# Altium schematic symbol library BSZ042N04NS G.SchLib: 1 symbol
Pins are listed as number, name and electrical type; pins without a type are passive.

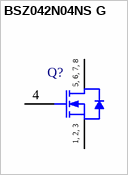
[diagram p0: symbol BSZ042N04NS G]

## BSZ042N04NS G
designator Q?
N-Channel OptiMOS 3 Power-Transistor, 40 V VDS, 40 A ID, -55 to 150 degC, PG-TSDSON-8-21, Reel, Green; Manufacturer: Infineon; PartNumber: BSZ042N04NS G; Green: TRUE; ID (max): 40 A; IDpuls (max): 160 A; Polarity: N; Ptot (max): 69 W; QG: 35 nC; RDS (on) (max): 4.2 mOhm; Rth: 1.8 K/W; RthJA (max): 60 K/W; VDS (max): 40 V; VGS(th) (max): 4 V; VGS(th) (min): 2 V; DatasheetVersion: Rev. 1.3; PackageVersion: Rev. 01, 03/2007; PackageReference: PG-TSDSON-8-21; PackageDescription: 8-Pin Plastic (Green) Small Outline Non-Leaded Package, 3.3 x 3.3 mm Body, 0.65 mm Pitch; Supplier 1: Digi-Key; Supplier Part Number 1: BSZ042N04NSGINTR-ND; Supplier 2: Digi-Key; Supplier Part Number 2: BSZ042N04NSGINCT-ND; Supplier 3: Digi-Key; Supplier Part Number 3: BSZ042N04NSGINDKR-ND; Supplier 4: Mouser; Supplier Part Number 4: 726-BSZ042N04NSG; Halogen-free: TRUE; Packing: Reel; RthJC (max): 1.8 K/W; Mounting Technology: Surface Mount; ComponentLink1Description: Manufacturer URL; ComponentLink1URL: http://www.infineon.com/; ComponentLink2Description: Datasheet; ComponentLink2URL: http://www.infineon.com/dgdl/BSZ042N04NSG_rev2.pdf?folderId=db3a3043156fd5730115c7d50620107c&fileId=db3a30431689f4420116c47d8f88084b; ComponentLink3Description: Package Specification; ComponentLink3URL: http://www.infineon.com/dgdl/BSZ110N06NS3_Rev2.4.pdf?folderId=db3a30431ddc9372011ebafa04517f8b&fileId=db3a30431ddc9372011ebb15d4e8001a
footprint INF-PG-TSDSON-8-21_V (SON, 8-Leads, Body 3.3x3.3mm, Pitch 0.65mm)
pins: 1 SOURCE, 2 SOURCE, 3 SOURCE, 4 GATE, 5 DRAIN, 6 DRAIN, 7 DRAIN, 8 DRAIN
text: 5, 6, 7, 8; 1, 2, 3